# Altium integrated library 2M190Z.IntLib: 1 symbol
Pins are listed as number, name and electrical type; pins without a type are passive.

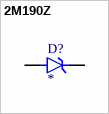
[diagram p0: symbol 2M190Z]

## 2M190Z
designator D?
DO-204AC (DO-15), 2000mW, 5%, Zener Diode; MF: Taiwan Semiconductor; MP: 2M190Z; SnapEDA_Link: https://www.snapeda.com/parts/2M190Z/Taiwan+Semiconductor/view-part/?ref=snap; Package: DO-15 Taiwan Semiconductor; Value: *; Check_prices: https://www.snapeda.com/parts/2M190Z/Taiwan+Semiconductor/view-part/?ref=eda
footprint DIOAD1300W80L670D310
pins: A, C K